# Altium footprint library Components.PcbLib: 86 footprints (part 6 of 6)
Each footprint in its own frame and in the unit in brackets; x right, y up, seen from the top. Pads: shape width x height; smd on the part's side, far side on the other; paste and mask are expansions set on the pad; w line width, h text height; cw(c..) or ccw(c..) is an arc to the next point about the centre after c.
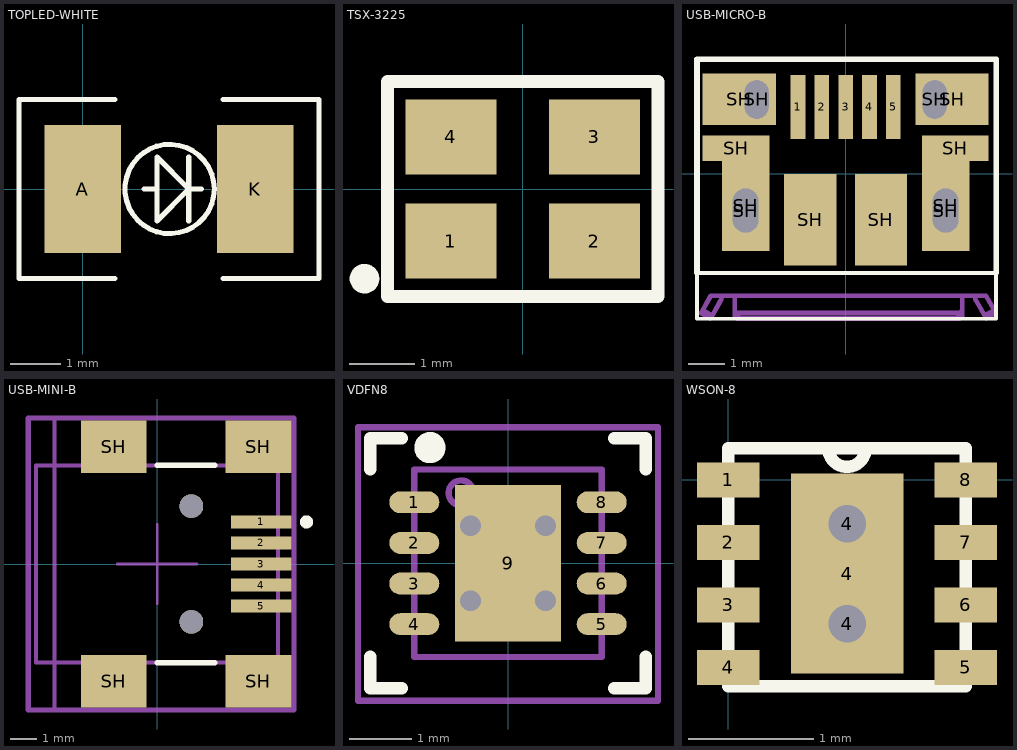
[diagram p5: the footprints below, top view; thin cyan lines are the x and y axes]

## TOPLED-WHITE [mil]
pads (2):
  rect 60x100 smd: A(0,0) K(135,0)
Top Overlay:
  circle w4: c68,0 r35
  lines w4: 25,-70 -50,-70 -50,70 25,70 ; 83,-25 83,0 ; 83,25 83,0 ; 93,0 83,0 ; 110,-70 185,-70 185,70 110,70 ; 58,0 58,-25 83,0 ; 58,0 48,0 58,0 ; 58,0 58,25 83,0
3D body: height 61, standoff 60, extent 30,-10 50,5
3D body: height 61, standoff 60, extent 54.69,-36.96 110.35,36.96
3D body: height 65, standoff 60, extent 60,-10 75,5
3D body: height 75, standoff 60, extent -2.8,-60 137.4,60
3D body: height 43.31, standoff 0, extent 142.32,-31.5 154.13,32.48
3D body: height 43.31, standoff 27.56, extent 137.4,-31.5 154.13,32.48
3D body: height 11.81, standoff 0, extent 115.75,-31.5 154.13,32.48
3D body: height 11.81, standoff 0, extent -19.53,-31.5 18.86,32.48
3D body: height 43.31, standoff 27.56, extent -19.53,-31.5 -2.8,32.48
3D body: height 43.31, standoff 0, extent -19.53,-31.5 -7.72,32.48
3D body: height 19.68, standoff 0, extent 40,-60 95,60
3D body: height 60, standoff 15, extent -2.8,-60 137.4,60
3D body: height 70, standoff 60, extent 29.65,-40.35 110.35,40.35
3D body: height 61, standoff 60, extent -2.8,-60 20,-37.2

## TSX-3225 [mm]
pads (4):
  rect 1.4x1.15 smd: 1(-1.1,-0.8) 2(1.1,-0.8) 3(1.1,0.8) 4(-1.1,0.8)
Top Overlay:
  circle w0.254: c-2.425,-1.375 r0.1
  lines w0.2: -2.075,-1.65 -2.075,1.65 2.075,1.65 2.075,-1.65 -2.075,-1.65
3D body: height 0.6, standoff 0, extent -1.6,-1.25 1.6,1.25

## USB-MICRO-B [mm] "FCI 10103594-0001LF"
pads (17):
  rect 0.4x1.75 smd: 1(-1.3,1.825) 2(-0.65,1.825) 3(0,1.825) 4(0.65,1.825) 5(1.3,1.825)
  rect 1.825x0.7 smd: SH(-2.987,0.7) SH(2.987,0.7)
  rect 2x1.4 smd: SH(-2.9,2.03) SH(2.9,2.03)
  oval 0.7x1.2 hole 0.7 slot 1.2 at 90 deg: SH(-2.725,-1) SH(2.725,-1)
  rect 1.3x2.45 smd: SH(-2.725,-0.875) SH(2.725,-0.875)
  oval 0.65x1.05 hole 0.65 slot 1.05 at 90 deg: SH(-2.425,2.03) SH(2.425,2.03)
  rect 1.425x2.5 smd: SH(-0.962,-1.25) SH(0.962,-1.25)
Top Overlay:
  lines w0.1: -4.05,-3.95 4.1,-3.95 4.1,-2.7 -4.05,-2.7 -4.05,-3.95
  lines w0.15: -4.05,-2.7 -4.05,3.125 4.1,3.125 4.1,-2.7
Mechanical 13:
  lines w0.127: -3.895,-3.706 -3.635,-3.856 ; -3.375,-3.325 cw(c-3.675,-3.326) -3.415,-3.476 -3.685,-3.943 -3.945,-3.793 -3.675,-3.325 -3.025,-3.325 ; -3.025,-3.706 ccw(c-2.931,-3.699) -2.925,-3.793 ; 3.175,-3.706 cw(c3.081,-3.699) 3.075,-3.793 ; 3.175,-3.326 -3.025,-3.325 ; 3.525,-3.325 ccw(c3.825,-3.326) 3.565,-3.476 3.835,-3.943 4.095,-3.793 3.825,-3.325 3.175,-3.325 3.175,-3.856 cw(c3.081,-3.849) 3.075,-3.943 ; 3.785,-3.856 4.045,-3.706 ; -3.025,-3.325 -3.025,-3.856 ccw(c-2.931,-3.849) -2.925,-3.943 ; -2.925,-3.943 3.075,-3.943 ; -2.925,-3.943 -2.925,-3.793 ; -2.925,-3.793 3.075,-3.793 ; 3.075,-3.943 3.075,-3.793
3D body: height 2.15, standoff -0.92, extent -5.25,-4.643 5.25,2.275
3D body: height 4.67, standoff -3.53, extent -5.35,-26.275 5.35,-1.775

## USB-MINI-B [mm] "EDAC_690-005-299-043_0"
pads (11):
  rect 2.3x0.5 smd: 1(3.95,1.6) 2(3.95,0.8) 3(3.95,0) 4(3.95,-0.8) 5(3.95,-1.6)
  rect 2.5x2 smd: SH(-1.65,-4.45) SH(-1.65,4.45) SH(3.85,-4.45) SH(3.85,4.45)
  round 0.9 hole 0.9 unplated paste-1000 mask+0: ""(1.3,-2.2) ""(1.3,2.2)
Top Overlay:
  circle w0.25: c5.675,1.6 r0.125
  lines w0.2: 0,-3.75 2.2,-3.75 ; 0,3.75 2.2,3.75
Mechanical 10:
  lines w0.2: -4.9,-5.55 5.2,-5.55 5.2,5.55 -4.9,5.55 -4.9,-5.55
  text ".Designator" at 0.15,0 h1
Mechanical 12:
  lines w0.15: -3.9,-5.55 -3.9,5.55 ; -4.6,-3.75 4.6,-3.75 4.6,3.75 -4.6,3.75 -4.6,-3.75
Mechanical 15:
  lines w0.1: -1.515,0 1.515,0 ; 0,-1.515 0,1.515
  lines w0.2: -4.9,-5.55 5.2,-5.55 5.2,5.55 -4.9,5.55 -4.9,-5.55
3D body: height 3.88, standoff -0.72, extent -4.571,-4.625 4.629,4.625

## VDFN8 [mm] "8-Lead Very Thin Plastic Dual Flat, No Lead Package (Q8B) - 3x3 mm Body [VDFN] With  2.40x1.60 mm Exposed Pad and Stepped Wettable Flanks"
height 0.85
pads (9):
  oval 0.8x0.35 smd: 1(-1.5,0.975) 2(-1.5,0.325) 3(-1.5,-0.325) 4(-1.5,-0.975) 5(1.5,-0.975) 6(1.5,-0.325) 7(1.5,0.325) 8(1.5,0.975)
  rect 1.7x2.5 smd: 9(0,0)
via -0.6,0.6 diameter 0.5 hole 0.33
via 0.6,0.6 diameter 0.5 hole 0.33
via -0.6,-0.6 diameter 0.5 hole 0.33
via 0.6,-0.6 diameter 0.5 hole 0.33
Top Overlay:
  circle w0.25: c-1.25,1.85 r0.125
  lines w0.2: -2.2,-1.5 -2.2,-2 -1.7,-2 ; -2.2,1.5 -2.2,2 -1.7,2 ; 1.7,-2 2.2,-2 2.2,-1.5 ; 1.7,2 2.2,2 2.2,1.5
Mechanical 13:
  circle w0.1: c-0.75,1.125 r0.2
  lines w0.1: -1.5,-1.5 -1.5,1.5 1.5,1.5 1.5,-1.5 -1.5,-1.5
Mechanical 15:
  lines w0.1: -0.5,0 0.5,0 ; 0,-0.5 0,0.5 ; -2.4,-2.2 -2.4,2.175 2.4,2.175 2.4,-2.2 -2.4,-2.2
3D body: height 1.73, standoff 0, extent -1.5,-1.5 1.5,1.5

## WSON-8 [mm]
pads (11):
  rect 0.5x0.28 smd: 1(0,0) 2(0,-0.5) 3(0,-1) 4(0,-1.5) 5(1.9,-1.5) 6(1.9,-1) 7(1.9,-0.5) 8(1.9,0)
  round 0.3 hole 0.3: 4(0.95,-1.15) 4(0.95,-0.35)
  rect 0.9x1.6 smd: 4(0.95,-0.75)
Top Overlay:
  lines w0.1: 0.8,0.254 ccw(c0.95,0.254) 1.1,0.254 ; 0,-1.651 0,0.254 1.9,0.254 1.9,-1.651 0,-1.651
3D body: height 0.7, standoff 0, extent 0,-1.65 1.9,0.262